# Altium footprint library SOP_127P_L.PcbLib: 38 footprints (part 2 of 3)
Each footprint in its own frame and in the unit in brackets; x right, y up, seen from the top. Pads: shape width x height; smd on the part's side, far side on the other; paste and mask are expansions set on the pad; w line width, h text height; cw(c..) or ccw(c..) is an arc to the next point about the centre after c.
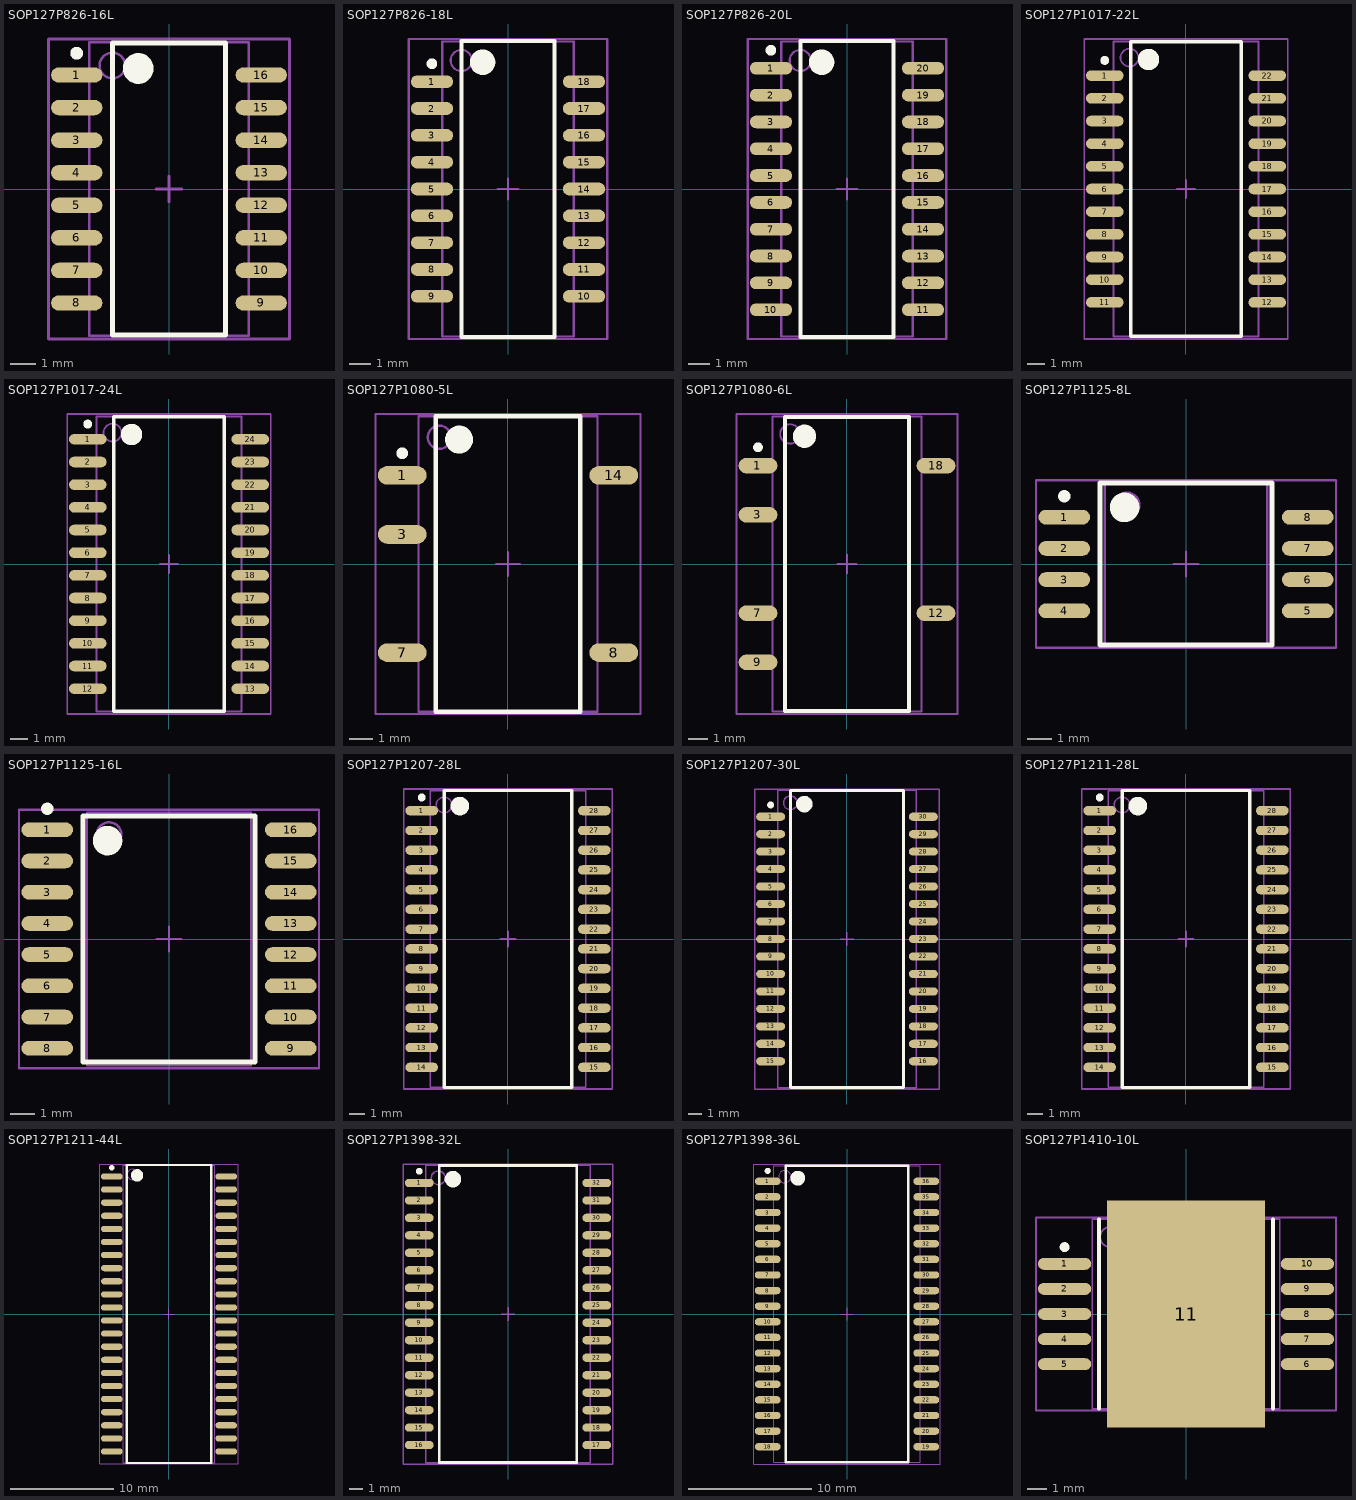
[diagram p1: the footprints below, top view; thin cyan lines are the x and y axes]

## SOP127P826-16L [mm] "SOP, 16-Leads, Body 11x6.2mm, Pitch 1.27mm, IPC High Density"
height 2
pads (16):
  oval 2x0.6 smd: 1(-3.6,4.445) 2(-3.6,3.175) 3(-3.6,1.905) 4(-3.6,0.635) 5(-3.6,-0.635) 6(-3.6,-1.905) 7(-3.6,-3.175) 8(-3.6,-4.445) 9(3.6,-4.445) 10(3.6,-3.175) 11(3.6,-1.905) 12(3.6,-0.635) 13(3.6,0.635) 14(3.6,1.905) 15(3.6,3.175) 16(3.6,4.445)
Top Overlay:
  circle w0.6: c-1.2,4.7 r0.3
  circle w0.25: c-3.6,5.295 r0.125
  lines w0.2: -2.2,-5.7 2.2,-5.7 2.2,5.7 -2.2,5.7 -2.2,-5.7
Mechanical 13:
  circle w0.1: c-2.21,4.815 r0.5
  lines w0.1: -3.11,-5.715 3.11,-5.715 3.11,5.715 -3.11,5.715 -3.11,-5.715
Mechanical 15:
  lines w0.1: -0.5,0 0.5,0 ; 0,-0.5 0,0.5 ; -4.7,-5.85 4.7,-5.85 4.7,5.85 -4.7,5.85 -4.7,-5.85
3D body: height 2, standoff 0, extent -3.11,-5.715 3.11,5.715

## SOP127P826-18L [mm] "SOP, 18-Leads, Body 13.4x6.2mm, Pitch 1.27mm, IPC High Density"
height 2
pads (18):
  oval 2x0.6 smd: 1(-3.6,5.08) 2(-3.6,3.81) 3(-3.6,2.54) 4(-3.6,1.27) 5(-3.6,0) 6(-3.6,-1.27) 7(-3.6,-2.54) 8(-3.6,-3.81) 9(-3.6,-5.08) 10(3.6,-5.08) 11(3.6,-3.81) 12(3.6,-2.54) 13(3.6,-1.27) 14(3.6,0) 15(3.6,1.27) 16(3.6,2.54) 17(3.6,3.81) 18(3.6,5.08)
Top Overlay:
  circle w0.25: c-3.6,5.93 r0.125
  circle w0.6: c-1.2,6 r0.3
  lines w0.2: -2.2,-7 -2.2,7 2.2,7 2.2,-7 -2.2,-7
Mechanical 13:
  circle w0.1: c-2.21,6.085 r0.5
  lines w0.1: -3.11,-6.985 -3.11,6.985 3.11,6.985 3.11,-6.985 -3.11,-6.985
Mechanical 15:
  lines w0.1: -0.5,0 0.5,0 ; 0,-0.5 0,0.5 ; -4.7,-7.1 -4.7,7.1 4.7,7.1 4.7,-7.1 -4.7,-7.1
3D body: height 2, standoff 0, extent -3.11,-6.985 3.11,6.985

## SOP127P826-20L [mm] "SOP, 20-Leads, Body 13.4x6.2mm, Pitch 1.27mm, IPC High Density"
height 2
pads (20):
  oval 2x0.6 smd: 1(-3.6,5.715) 2(-3.6,4.445) 3(-3.6,3.175) 4(-3.6,1.905) 5(-3.6,0.635) 6(-3.6,-0.635) 7(-3.6,-1.905) 8(-3.6,-3.175) 9(-3.6,-4.445) 10(-3.6,-5.715) 11(3.6,-5.715) 12(3.6,-4.445) 13(3.6,-3.175) 14(3.6,-1.905) 15(3.6,-0.635) 16(3.6,0.635) 17(3.6,1.905) 18(3.6,3.175) 19(3.6,4.445) 20(3.6,5.715)
Top Overlay:
  circle w0.6: c-1.2,6 r0.3
  circle w0.25: c-3.6,6.565 r0.125
  lines w0.2: -2.2,-7 2.2,-7 2.2,7 -2.2,7 -2.2,-7
Mechanical 13:
  circle w0.1: c-2.21,6.085 r0.5
  lines w0.1: -3.11,-6.985 3.11,-6.985 3.11,6.985 -3.11,6.985 -3.11,-6.985
Mechanical 15:
  lines w0.1: -0.5,0 0.5,0 ; 0,-0.5 0,0.5 ; -4.7,-7.1 4.7,-7.1 4.7,7.1 -4.7,7.1 -4.7,-7.1
3D body: height 2, standoff 0, extent -3.11,-6.985 3.11,6.985

## SOP127P1017-22L [mm] "SOP, 22-Leads, Body 15.6x8.1mm, Pitch 1.27mm, IPC High Density"
height 2.5
pads (22):
  oval 2.1x0.6 smd: 1(-4.55,6.35) 2(-4.55,5.08) 3(-4.55,3.81) 4(-4.55,2.54) 5(-4.55,1.27) 6(-4.55,0) 7(-4.55,-1.27) 8(-4.55,-2.54) 9(-4.55,-3.81) 10(-4.55,-5.08) 11(-4.55,-6.35) 12(4.55,-6.35) 13(4.55,-5.08) 14(4.55,-3.81) 15(4.55,-2.54) 16(4.55,-1.27) 17(4.55,0) 18(4.55,1.27) 19(4.55,2.54) 20(4.55,3.81) 21(4.55,5.08) 22(4.55,6.35)
Top Overlay:
  circle w0.6: c-2.1,7.25 r0.3
  circle w0.25: c-4.55,7.2 r0.125
  lines w0.2: -3.1,-8.25 3.1,-8.25 3.1,8.25 -3.1,8.25 -3.1,-8.25
Mechanical 13:
  circle w0.1: c-3.165,7.355 r0.5
  lines w0.1: -4.065,-8.255 4.065,-8.255 4.065,8.255 -4.065,8.255 -4.065,-8.255
Mechanical 15:
  lines w0.1: -0.5,0 0.5,0 ; 0,-0.5 0,0.5 ; -5.7,-8.4 5.7,-8.4 5.7,8.4 -5.7,8.4 -5.7,-8.4
3D body: height 2.5, standoff 0, extent -4.065,-8.255 4.065,8.255

## SOP127P1017-24L [mm] "SOP, 24-Leads, Body 15.6x8.1mm, Pitch 1.27mm, IPC High Density"
height 2.5
pads (24):
  oval 2.1x0.6 smd: 1(-4.55,6.985) 2(-4.55,5.715) 3(-4.55,4.445) 4(-4.55,3.175) 5(-4.55,1.905) 6(-4.55,0.635) 7(-4.55,-0.635) 8(-4.55,-1.905) 9(-4.55,-3.175) 10(-4.55,-4.445) 11(-4.55,-5.715) 12(-4.55,-6.985) 13(4.55,-6.985) 14(4.55,-5.715) 15(4.55,-4.445) 16(4.55,-3.175) 17(4.55,-1.905) 18(4.55,-0.635) 19(4.55,0.635) 20(4.55,1.905) 21(4.55,3.175) 22(4.55,4.445) 23(4.55,5.715) 24(4.55,6.985)
Top Overlay:
  circle w0.25: c-4.55,7.835 r0.125
  circle w0.6: c-2.1,7.25 r0.3
  lines w0.2: -3.1,-8.25 -3.1,8.25 3.1,8.25 3.1,-8.25 -3.1,-8.25
Mechanical 13:
  circle w0.1: c-3.165,7.355 r0.5
  lines w0.1: -4.065,-8.255 -4.065,8.255 4.065,8.255 4.065,-8.255 -4.065,-8.255
Mechanical 15:
  lines w0.1: -0.5,0 0.5,0 ; 0,-0.5 0,0.5 ; -5.7,-8.4 -5.7,8.4 5.7,8.4 5.7,-8.4 -5.7,-8.4
3D body: height 2.5, standoff 0, extent -4.065,-8.255 4.065,8.255

## SOP127P1080-5L [mm] "SOP, 14-Leads (9 Absent), Body 12.7x7.7mm, Pitch 1.27mm, IPC High Density"
height 6.43
pads (5):
  oval 2.1x0.8 smd: 1(-4.55,3.81) 3(-4.55,1.27) 7(-4.55,-3.81) 8(4.55,-3.81) 14(4.55,3.81)
Top Overlay:
  circle w0.6: c-2.1,5.35 r0.3
  circle w0.25: c-4.55,4.76 r0.125
  lines w0.2: -3.1,-6.35 3.1,-6.35 3.1,6.35 -3.1,6.35 -3.1,-6.35
Mechanical 13:
  circle w0.1: c-2.95,5.45 r0.5
  lines w0.1: -3.85,-6.35 3.85,-6.35 3.85,6.35 -3.85,6.35 -3.85,-6.35
Mechanical 15:
  lines w0.1: -0.5,0 0.5,0 ; 0,-0.5 0,0.5 ; -5.7,-6.45 5.7,-6.45 5.7,6.45 -5.7,6.45 -5.7,-6.45
3D body: height 6.43, standoff 0, extent -3.85,-6.35 3.85,6.35

## SOP127P1080-6L [mm] "SOP, 18-Leads (12 Absent), Body 15.2x7.7mm, Pitch 1.27mm, IPC High Density"
height 6.43
pads (6):
  oval 2x0.8 smd: 1(-4.6,5.08) 3(-4.6,2.54) 7(-4.6,-2.54) 9(-4.6,-5.08) 12(4.6,-2.54) 18(4.6,5.08)
Top Overlay:
  circle w0.25: c-4.6,6.03 r0.125
  circle w0.6: c-2.2,6.6 r0.3
  lines w0.2: -3.2,-7.6 -3.2,7.6 3.2,7.6 3.2,-7.6 -3.2,-7.6
Mechanical 13:
  circle w0.1: c-2.95,6.72 r0.5
  lines w0.1: -3.85,-7.62 -3.85,7.62 3.85,7.62 3.85,-7.62 -3.85,-7.62
Mechanical 15:
  lines w0.1: -0.5,0 0.5,0 ; 0,-0.5 0,0.5 ; -5.7,-7.75 -5.7,7.75 5.7,7.75 5.7,-7.75 -5.7,-7.75
3D body: height 6.43, standoff 0, extent -3.85,-7.62 3.85,7.62

## SOP127P1125-8L [mm] "SOP, 8-Leads, Body 6.5x6.5mm, Pitch 1.27mm, IPC High Density"
height 2.49
pads (8):
  oval 2.1x0.6 smd: 1(-4.95,1.905) 2(-4.95,0.635) 3(-4.95,-0.635) 4(-4.95,-1.905) 5(4.95,-1.905) 6(4.95,-0.635) 7(4.95,0.635) 8(4.95,1.905)
Top Overlay:
  circle w0.25: c-4.95,2.755 r0.125
  circle w0.6: c-2.5,2.3 r0.3
  lines w0.2: -3.5,-3.3 -3.5,3.3 3.5,3.3 3.5,-3.3 -3.5,-3.3
Mechanical 13:
  circle w0.1: c-2.4,2.4 r0.5
  lines w0.1: -3.3,-3.3 -3.3,3.3 3.3,3.3 3.3,-3.3 -3.3,-3.3
Mechanical 15:
  lines w0.1: -0.5,0 0.5,0 ; 0,-0.5 0,0.5 ; -6.1,-3.4 -6.1,3.4 6.1,3.4 6.1,-3.4 -6.1,-3.4
3D body: height 2.49, standoff 0, extent -3.3,-3.3 3.3,3.3

## SOP127P1125-16L [mm] "SOP, 16-Leads, Body 10.1x6.5mm, Pitch 1.27mm, IPC High Density"
height 2.62
pads (16):
  oval 2.1x0.6 smd: 1(-4.95,4.445) 2(-4.95,3.175) 3(-4.95,1.905) 4(-4.95,0.635) 5(-4.95,-0.635) 6(-4.95,-1.905) 7(-4.95,-3.175) 8(-4.95,-4.445) 9(4.95,-4.445) 10(4.95,-3.175) 11(4.95,-1.905) 12(4.95,-0.635) 13(4.95,0.635) 14(4.95,1.905) 15(4.95,3.175) 16(4.95,4.445)
Top Overlay:
  circle w0.25: c-4.95,5.295 r0.125
  circle w0.6: c-2.5,4 r0.3
  lines w0.2: -3.5,-5 -3.5,5 3.5,5 3.5,-5 -3.5,-5
Mechanical 13:
  circle w0.1: c-2.435,4.245 r0.5
  lines w0.1: -3.335,-5.145 -3.335,5.145 3.335,5.145 3.335,-5.145 -3.335,-5.145
Mechanical 15:
  lines w0.1: -0.5,0 0.5,0 ; 0,-0.5 0,0.5 ; -6.1,-5.25 -6.1,5.25 6.1,5.25 6.1,-5.25 -6.1,-5.25
3D body: height 2.62, standoff 0, extent -3.335,-5.145 3.335,5.145

## SOP127P1207-28L [mm] "SOP, 28-Leads, Body 18.1x8.6mm, Pitch 1.27mm, IPC High Density"
height 3.05
pads (28):
  oval 2.1x0.6 smd: 1(-5.55,8.255) 2(-5.55,6.985) 3(-5.55,5.715) 4(-5.55,4.445) 5(-5.55,3.175) 6(-5.55,1.905) 7(-5.55,0.635) 8(-5.55,-0.635) 9(-5.55,-1.905) 10(-5.55,-3.175) 11(-5.55,-4.445) 12(-5.55,-5.715) 13(-5.55,-6.985) 14(-5.55,-8.255) 15(5.55,-8.255) 16(5.55,-6.985) 17(5.55,-5.715) 18(5.55,-4.445) 19(5.55,-3.175) 20(5.55,-1.905) 21(5.55,-0.635) 22(5.55,0.635) 23(5.55,1.905) 24(5.55,3.175) 25(5.55,4.445) 26(5.55,5.715) 27(5.55,6.985) 28(5.55,8.255)
Top Overlay:
  circle w0.6: c-3.1,8.55 r0.3
  circle w0.25: c-5.55,9.105 r0.125
  lines w0.2: -4.1,-9.55 4.1,-9.55 4.1,9.55 -4.1,9.55 -4.1,-9.55
Mechanical 13:
  circle w0.1: c-4.115,8.625 r0.5
  lines w0.1: -5.015,-9.525 5.015,-9.525 5.015,9.525 -5.015,9.525 -5.015,-9.525
Mechanical 15:
  lines w0.1: -0.5,0 0.5,0 ; 0,-0.5 0,0.5 ; -6.7,-9.65 6.7,-9.65 6.7,9.65 -6.7,9.65 -6.7,-9.65
3D body: height 3.05, standoff 0, extent -5.015,-9.525 5.015,9.525

## SOP127P1207-30L [mm] "SOP, 30-Leads, Body 20.7x10mm, Pitch 1.27mm, IPC High Density"
height 3
pads (30):
  oval 2.1x0.6 smd: 1(-5.55,8.89) 2(-5.55,7.62) 3(-5.55,6.35) 4(-5.55,5.08) 5(-5.55,3.81) 6(-5.55,2.54) 7(-5.55,1.27) 8(-5.55,0) 9(-5.55,-1.27) 10(-5.55,-2.54) 11(-5.55,-3.81) 12(-5.55,-5.08) 13(-5.55,-6.35) 14(-5.55,-7.62) 15(-5.55,-8.89) 16(5.55,-8.89) 17(5.55,-7.62) 18(5.55,-6.35) 19(5.55,-5.08) 20(5.55,-3.81) 21(5.55,-2.54) 22(5.55,-1.27) 23(5.55,0) 24(5.55,1.27) 25(5.55,2.54) 26(5.55,3.81) 27(5.55,5.08) 28(5.55,6.35) 29(5.55,7.62) 30(5.55,8.89)
Top Overlay:
  circle w0.25: c-5.55,9.74 r0.125
  circle w0.6: c-3.1,9.8 r0.3
  lines w0.2: -4.1,-10.8 -4.1,10.8 4.1,10.8 4.1,-10.8 -4.1,-10.8
Mechanical 13:
  circle w0.1: c-4.115,9.895 r0.5
  lines w0.1: -5.015,-10.795 -5.015,10.795 5.015,10.795 5.015,-10.795 -5.015,-10.795
Mechanical 15:
  lines w0.1: -0.5,0 0.5,0 ; 0,-0.5 0,0.5 ; -6.7,-10.9 -6.7,10.9 6.7,10.9 6.7,-10.9 -6.7,-10.9
3D body: height 3, standoff 0, extent -5.015,-10.795 5.015,10.795

## SOP127P1211-28L [mm] "28-Pin Plastic Battery Snaphat Small Outline Package 1.27 mm Pitch"
height 3.05
pads (28):
  oval 2.1x0.6 smd: 1(-5.55,8.255) 2(-5.55,6.985) 3(-5.55,5.715) 4(-5.55,4.445) 5(-5.55,3.175) 6(-5.55,1.905) 7(-5.55,0.635) 8(-5.55,-0.635) 9(-5.55,-1.905) 10(-5.55,-3.175) 11(-5.55,-4.445) 12(-5.55,-5.715) 13(-5.55,-6.985) 14(-5.55,-8.255) 15(5.55,-8.255) 16(5.55,-6.985) 17(5.55,-5.715) 18(5.55,-4.445) 19(5.55,-3.175) 20(5.55,-1.905) 21(5.55,-0.635) 22(5.55,0.635) 23(5.55,1.905) 24(5.55,3.175) 25(5.55,4.445) 26(5.55,5.715) 27(5.55,6.985) 28(5.55,8.255)
Top Overlay:
  circle w0.25: c-5.55,9.105 r0.125
  circle w0.6: c-3.1,8.55 r0.3
  lines w0.2: -4.1,-9.55 -4.1,9.55 4.1,9.55 4.1,-9.55 -4.1,-9.55
Mechanical 13:
  circle w0.1: c-4.115,8.625 r0.5
  lines w0.1: -5.015,-9.525 -5.015,9.525 5.015,9.525 5.015,-9.525 -5.015,-9.525
Mechanical 15:
  lines w0.1: -0.5,0 0.5,0 ; 0,-0.5 0,0.5 ; -6.7,-9.65 -6.7,9.65 6.7,9.65 6.7,-9.65 -6.7,-9.65
3D body: height 3.05, standoff 0, extent -5.015,-9.525 5.015,9.525

## SOP127P1211-44L [mm] "44-Pin Plastic Battery Snaphat Small Outline Package 1.27 mm Pitch"
height 3.05
pads (44):
  oval 2.1x0.6 smd: 1(-5.55,13.335) 2(-5.55,12.065) 3(-5.55,10.795) 4(-5.55,9.525) 5(-5.55,8.255) 6(-5.55,6.985) 7(-5.55,5.715) 8(-5.55,4.445) 9(-5.55,3.175) 10(-5.55,1.905) 11(-5.55,0.635) 12(-5.55,-0.635) 13(-5.55,-1.905) 14(-5.55,-3.175) 15(-5.55,-4.445) 16(-5.55,-5.715) 17(-5.55,-6.985) 18(-5.55,-8.255) 19(-5.55,-9.525) 20(-5.55,-10.795) 21(-5.55,-12.065) 22(-5.55,-13.335) 23(5.55,-13.335) 24(5.55,-12.065) 25(5.55,-10.795) 26(5.55,-9.525) 27(5.55,-8.255) 28(5.55,-6.985) 29(5.55,-5.715) 30(5.55,-4.445) 31(5.55,-3.175) 32(5.55,-1.905) 33(5.55,-0.635) 34(5.55,0.635) 35(5.55,1.905) 36(5.55,3.175) 37(5.55,4.445) 38(5.55,5.715) 39(5.55,6.985) 40(5.55,8.255) 41(5.55,9.525) 42(5.55,10.795) 43(5.55,12.065) 44(5.55,13.335)
Top Overlay:
  circle w0.25: c-5.55,14.185 r0.125
  circle w0.6: c-3.1,13.45 r0.3
  lines w0.2: -4.1,-14.45 -4.1,14.45 4.1,14.45 4.1,-14.45 -4.1,-14.45
Mechanical 13:
  circle w0.1: c-3.545,13.535 r0.5
  lines w0.1: -4.445,-14.435 -4.445,14.435 4.445,14.435 4.445,-14.435 -4.445,-14.435
Mechanical 15:
  lines w0.1: -0.5,0 0.5,0 ; 0,-0.5 0,0.5 ; -6.7,-14.55 -6.7,14.55 6.7,14.55 6.7,-14.55 -6.7,-14.55
3D body: height 3.05, standoff 0, extent -4.445,-14.435 4.445,14.435

## SOP127P1398-32L [mm] "SOP, 32-Leads, Body 20.7x11.9mm, Pitch 1.27mm, IPC High Density"
height 3.5
pads (32):
  oval 2.1x0.6 smd: 1(-6.45,9.525) 2(-6.45,8.255) 3(-6.45,6.985) 4(-6.45,5.715) 5(-6.45,4.445) 6(-6.45,3.175) 7(-6.45,1.905) 8(-6.45,0.635) 9(-6.45,-0.635) 10(-6.45,-1.905) 11(-6.45,-3.175) 12(-6.45,-4.445) 13(-6.45,-5.715) 14(-6.45,-6.985) 15(-6.45,-8.255) 16(-6.45,-9.525) 17(6.45,-9.525) 18(6.45,-8.255) 19(6.45,-6.985) 20(6.45,-5.715) 21(6.45,-4.445) 22(6.45,-3.175) 23(6.45,-1.905) 24(6.45,-0.635) 25(6.45,0.635) 26(6.45,1.905) 27(6.45,3.175) 28(6.45,4.445) 29(6.45,5.715) 30(6.45,6.985) 31(6.45,8.255) 32(6.45,9.525)
Top Overlay:
  circle w0.6: c-4,9.8 r0.3
  circle w0.25: c-6.45,10.375 r0.125
  lines w0.2: -5,-10.8 5,-10.8 5,10.8 -5,10.8 -5,-10.8
Mechanical 13:
  circle w0.1: c-5.07,9.895 r0.5
  lines w0.1: -5.97,-10.795 5.97,-10.795 5.97,10.795 -5.97,10.795 -5.97,-10.795
Mechanical 15:
  lines w0.1: -0.5,0 0.5,0 ; 0,-0.5 0,0.5 ; -7.6,-10.9 7.6,-10.9 7.6,10.9 -7.6,10.9 -7.6,-10.9
3D body: height 3.5, standoff 0, extent -5.97,-10.795 5.97,10.795

## SOP127P1398-36L [mm] "SOP, 36-Leads, Body 23.2x11.9mm, Pitch 1.27mm, IPC High Density"
height 3.5
pads (36):
  oval 2.1x0.6 smd: 1(-6.45,10.795) 2(-6.45,9.525) 3(-6.45,8.255) 4(-6.45,6.985) 5(-6.45,5.715) 6(-6.45,4.445) 7(-6.45,3.175) 8(-6.45,1.905) 9(-6.45,0.635) 10(-6.45,-0.635) 11(-6.45,-1.905) 12(-6.45,-3.175) 13(-6.45,-4.445) 14(-6.45,-5.715) 15(-6.45,-6.985) 16(-6.45,-8.255) 17(-6.45,-9.525) 18(-6.45,-10.795) 19(6.45,-10.795) 20(6.45,-9.525) 21(6.45,-8.255) 22(6.45,-6.985) 23(6.45,-5.715) 24(6.45,-4.445) 25(6.45,-3.175) 26(6.45,-1.905) 27(6.45,-0.635) 28(6.45,0.635) 29(6.45,1.905) 30(6.45,3.175) 31(6.45,4.445) 32(6.45,5.715) 33(6.45,6.985) 34(6.45,8.255) 35(6.45,9.525) 36(6.45,10.795)
Top Overlay:
  circle w0.6: c-4,11.05 r0.3
  circle w0.25: c-6.45,11.645 r0.125
  lines w0.2: -5,-12.05 5,-12.05 5,12.05 -5,12.05 -5,-12.05
Mechanical 13:
  circle w0.1: c-5.07,11.165 r0.5
  lines w0.1: -5.97,-12.065 5.97,-12.065 5.97,12.065 -5.97,12.065 -5.97,-12.065
Mechanical 15:
  lines w0.1: -0.5,0 0.5,0 ; 0,-0.5 0,0.5 ; -7.6,-12.2 7.6,-12.2 7.6,12.2 -7.6,12.2 -7.6,-12.2
3D body: height 3.5, standoff 0, extent -5.97,-12.065 5.97,12.065

## SOP127P1410-10L [mm] "10-Pin Small Outline Package 1.27 mm Pitch"
height 3.71
pads (11):
  oval 2.7x0.6 smd: 1(-6.15,2.54) 2(-6.15,1.27) 3(-6.15,0) 4(-6.15,-1.27) 5(-6.15,-2.54) 6(6.15,-2.54) 7(6.15,-1.27) 8(6.15,0) 9(6.15,1.27) 10(6.15,2.54)
  rect 8x11.5 smd: 11(0,0)
Top Overlay:
  circle w0.25: c-6.15,3.39 r0.125
  lines w0.2: -4.4,-4.8 -4.4,4.8 ; 4.4,-4.8 4.4,4.8
Mechanical 13:
  circle w0.1: c-3.85,3.9 r0.5
  lines w0.1: -4.75,-4.8 4.75,-4.8 4.75,4.8 -4.75,4.8 -4.75,-4.8
Mechanical 15:
  lines w0.1: -0.5,0 0.5,0 ; 0,-0.5 0,0.5 ; -7.6,-4.9 7.6,-4.9 7.6,4.9 -7.6,4.9 -7.6,-4.9
3D body: height 3.71, standoff 0, extent -4.75,-4.8 4.75,4.8